# Altium footprint library texas-sn55-sn75.PCBLIB: 3 footprints
Each footprint in its own frame and in the unit in brackets; x right, y up, seen from the top. Pads: shape width x height; smd on the part's side, far side on the other; paste and mask are expansions set on the pad; w line width, h text height; cw(c..) or ccw(c..) is an arc to the next point about the centre after c.
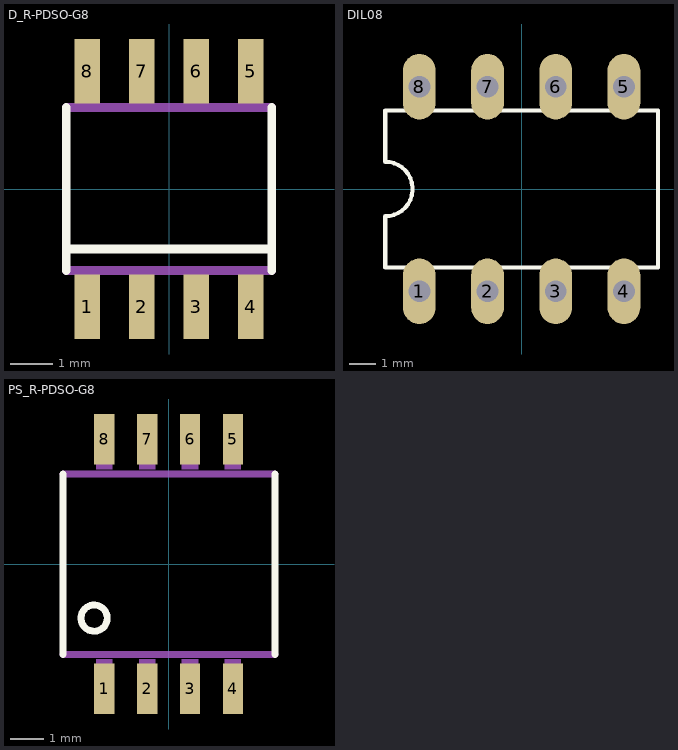
[diagram p0: the footprints below, top view; thin cyan lines are the x and y axes]

## D_R-PDSO-G8 [mil]
pads (8):
  rect 23.62x59.06 smd: 1(-75,-108.27) 2(-25,-108.27) 3(25,-108.27) 4(75,-108.27) 5(75,108.27) 6(25,108.27) 7(-25,108.27) 8(-75,108.27)
Top Overlay:
  lines w8: -94.49,-74.8 -94.49,-55.12 ; -94.49,74.8 -94.49,-55.12 ; 94.49,-74.8 94.49,-55.12 ; 94.49,74.8 94.49,-55.12 ; -94.49,-55.12 94.49,-55.12
Mechanical 16:
  rectangle: -84.65,-125.98 -65.35,-78.74
  rectangle: -34.65,-125.98 -15.35,-78.74
  rectangle: 15.35,-125.98 34.65,-78.74
  rectangle: 65.35,-125.98 84.65,-78.74
  rectangle: 65.35,78.74 84.65,125.98
  rectangle: 15.35,78.74 34.65,125.98
  rectangle: -34.65,78.74 -15.35,125.98
  rectangle: -84.65,78.74 -65.35,125.98
  lines w8: -94.49,-74.8 94.49,-74.8 ; -94.49,74.8 94.49,74.8

## DIL08 [mil]
pads (8):
  oval 48x96 hole 32: 1(-150,-150) 2(-50,-150) 3(50,-150) 4(150,-150) 5(150,150) 6(50,150) 7(-50,150) 8(-150,150)
Top Overlay:
  lines w6: -200,-115 200,-115 200,115 -200,115 -200,40 cw(c-200,0) -200,-40 -200,-115

## PS_R-PDSO-G8 [mm]
pads (8):
  rect 0.6x1.5 smd: 1(-1.905,-3.685) 2(-0.635,-3.685) 3(0.635,-3.685) 4(1.905,-3.685) 5(1.905,3.7) 6(0.635,3.7) 7(-0.635,3.7) 8(-1.905,3.7)
Top Overlay:
  circle w0.203: c-2.205,-1.595 r0.389
  lines w0.203: -3.125,-2.675 -3.125,2.675 ; 3.15,-2.675 3.15,2.675
Mechanical 16:
  rectangle: -2.15,-4.1 -1.66,-2.8
  rectangle: -0.88,-4.1 -0.39,-2.8
  rectangle: 0.39,-4.1 0.88,-2.8
  rectangle: 1.66,-4.1 2.15,-2.8
  rectangle: 1.66,2.8 2.15,4.1
  rectangle: 0.39,2.8 0.88,4.1
  rectangle: -0.88,2.8 -0.39,4.1
  rectangle: -2.15,2.8 -1.66,4.1
  lines w0.203: -3.125,-2.675 3.15,-2.675 ; -3.125,2.675 3.15,2.675